# EAGLE library part ARK124/3 (library con-malina)
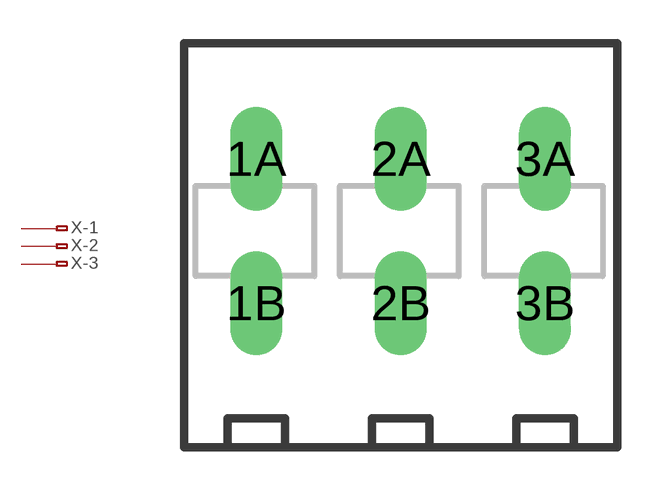
[diagram p0: symbol with the pads of ARK124/3; footprint ARK124/3]

Designator prefix X; gates -2=ARK2B -1=ARK2B -3=ARK2B

## ARK124/3  [ARK124/3]
1A  -1:1  pas
1B  -1:2  pas
2A  -2:1  pas
2B  -2:2  pas
3A  -3:1  pas
3B  -3:2  pas

## Footprint ARK124/3 (pad centres in mm)
drill 1 pad 1.8 long: 1A -5,0; 1B -5,-5; 2A 0,0; 2B 0,-5; 3A 5,0; 3B 5,-5